# Altium footprint library Xedk.PcbLib: 11 footprints
Each footprint in its own frame and in the unit in brackets; x right, y up, seen from the top. Pads: shape width x height; smd on the part's side, far side on the other; paste and mask are expansions set on the pad; w line width, h text height; cw(c..) or ccw(c..) is an arc to the next point about the centre after c.
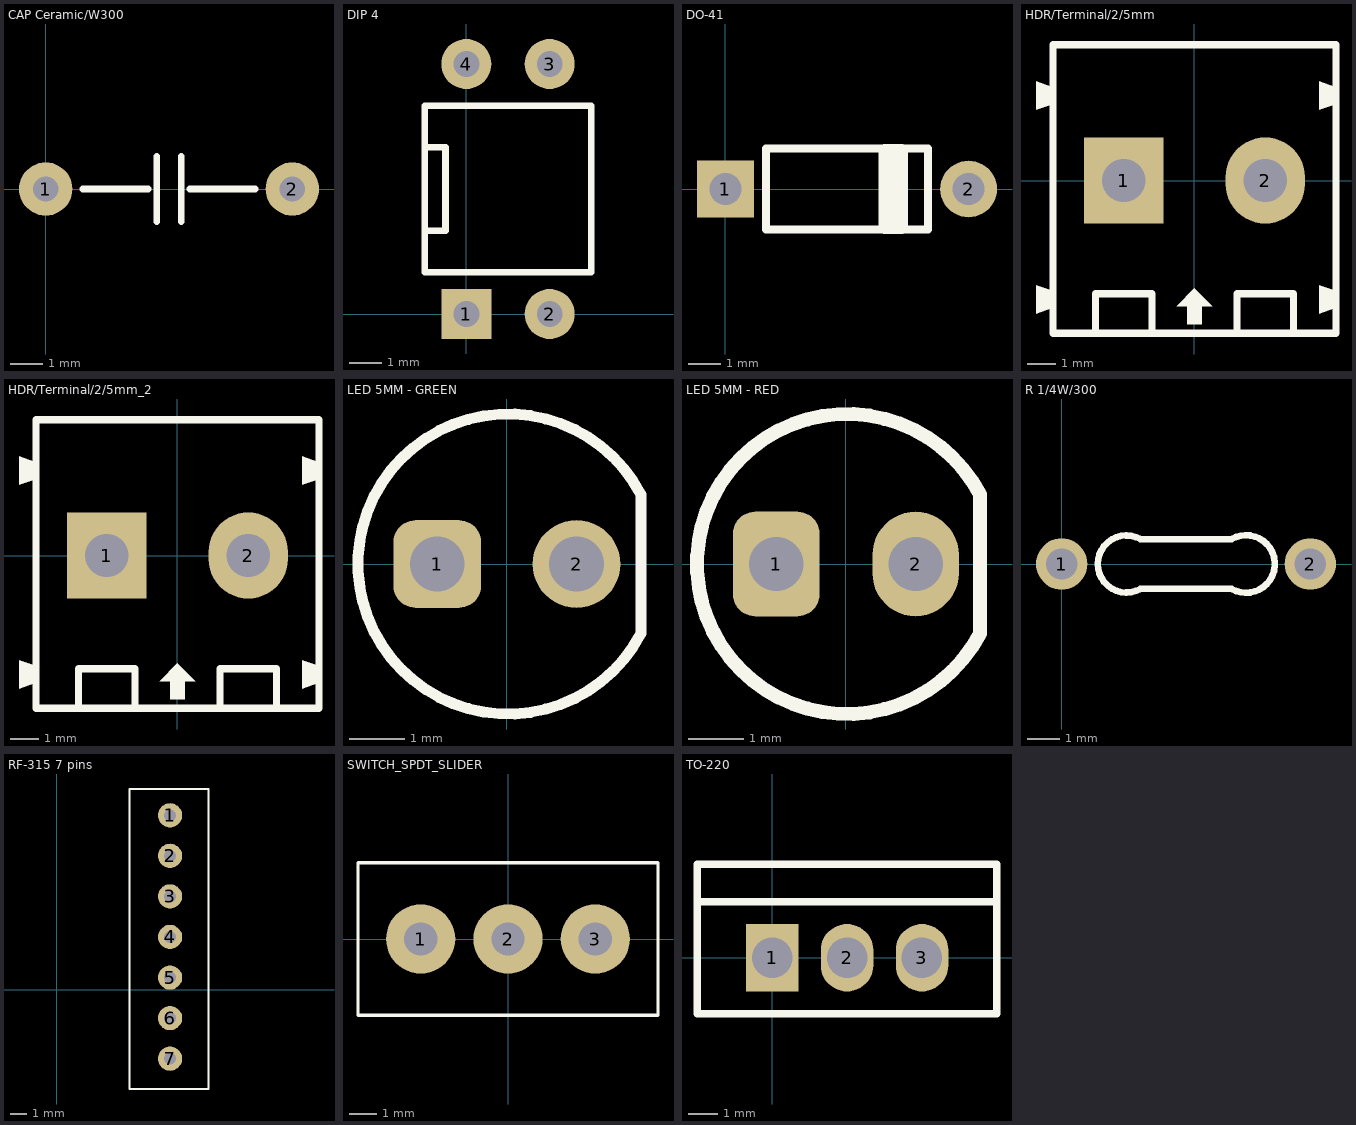
[diagram p0: the footprints below, top view; thin cyan lines are the x and y axes]

## CAP Ceramic/W300 [mil]
pads (2):
  round 65 hole 31: 1(0,0) 2(300,0)
Top Overlay:
  lines w8: 45,0 125,0 ; 135,-40 135,40 ; 165,-40 165,40 ; 175,0 255,0
3D body "User Library-Panasonic ECK-A3D102KBP.step": height 339.84, standoff -180, extent -7.5,-47.15 307.5,47.16

## DIP 4 [mil]
pads (4):
  rect 60x60 / inner round 0 / far side rect 60x80 hole 31: 1(0,0)
  round 60 / inner round 0 / far side oval 60x80 hole 31: 2(100,0) 3(100,300) 4(0,300)
Top Overlay:
  lines w8: -50,100 -25,100 -25,200 -50,200 ; -50,50 -50,250 150,250 150,50 -50,50
3D body "User Library-DIP4-7_62-2_54.STEP": height 276.09, standoff 0.5, extent -41.27,2.29 139.7,312.67

## DO-41 [mil]
pads (2):
  rect 70x70 hole 39.37: 1(0,0)
  round 70 hole 39.37: 2(300,0)
Top Overlay:
  region: 223.41,53.83 225,50 225,-50 223.41,-53.83 219.59,-55.41 194.59,-55.41 190.76,-53.83 189.18,-50 189.18,50 190.76,53.83 194.59,55.41 219.59,55.41
  lines w10: 50,-50 250,-50 250,50 50,50 50,-50
3D body "User Library-DO-41G-30.step": height 99.25, standoff -78.74, extent -15.36,-47.28 315.35,47.28

## HDR/Terminal/2/5mm [mil]
pads (2):
  rect 110x120 hole 60: 1(-98.43,0)
  oval 110x120 hole 60: 2(98.43,0)
Top Overlay:
  region: 0,-150 -25,-175 -10,-175 -10,-200 10,-200 10,-175 25,-175
  region: -220.47,98.43 -220.47,137.8 -196.85,129.92 -196.85,106.3
  region: -220.47,-185.04 -220.47,-145.67 -196.85,-153.54 -196.85,-177.17
  region: 173.23,-185.04 173.23,-145.67 196.85,-153.54 196.85,-177.17
  region: 173.23,98.43 173.23,137.8 196.85,129.92 196.85,106.3
  lines w10: -137.8,-212.6 -137.8,-157.48 -59.06,-157.48 -59.06,-212.6 ; 59.06,-212.6 59.06,-157.48 137.8,-157.48 137.8,-212.6 ; -196.85,-212.6 -196.85,188.98 196.85,188.98 196.85,-212.6 -196.85,-212.6
3D body "terminal_blocks_a-tb500-ti02.stp": height 559.07, standoff -137.8, extent -220.47,-214.57 196.85,190.95

## HDR/Terminal/2/5mm_2 [mil]
pads (2):
  rect 110x120 hole 60: 1(-98.43,0)
  oval 110x120 hole 60: 2(98.43,0)
Top Overlay:
  region: 0,-150 -25,-175 -10,-175 -10,-200 10,-200 10,-175 25,-175
  region: -220.47,98.43 -220.47,137.8 -196.85,129.92 -196.85,106.3
  region: -220.47,-185.04 -220.47,-145.67 -196.85,-153.54 -196.85,-177.17
  region: 173.23,-185.04 173.23,-145.67 196.85,-153.54 196.85,-177.17
  region: 173.23,98.43 173.23,137.8 196.85,129.92 196.85,106.3
  lines w10: -137.8,-212.6 -137.8,-157.48 -59.06,-157.48 -59.06,-212.6 ; 59.06,-212.6 59.06,-157.48 137.8,-157.48 137.8,-212.6 ; -196.85,-212.6 -196.85,188.98 196.85,188.98 196.85,-212.6 -196.85,-212.6
3D body "terminal_blocks_a-tb500-ti02.stp": height 559.07, standoff -137.8, extent -220.47,-214.57 196.85,190.95

## LED 5MM - GREEN [mm]
pads (2):
  rrect50% 1.6x1.6 hole 1: 1(-1.27,0)
  round 1.6 hole 1: 2(1.27,0)
Top Overlay:
  lines w0.2: 2.44,-1.27 cw(c0.019,0) 2.44,1.27 2.44,-1.27
3D body "User Library-LED 5mm Green.STEP": height 8.63, standoff -6.17, extent -2.98,-3.01 2.44,3.01

## LED 5MM - RED [mil]
pads (2):
  rrect50% 62x75 hole 39: 1(-50,0)
  oval 62x75 hole 39: 2(50,0)
Top Overlay:
  lines w10: 96.08,-49.99 cw(c0.76,0.01) 96.08,50.01 96.08,-49.99
3D body "User Library-LED 5mm Red.STEP": height 339.75, standoff -242.93, extent -117.31,-118.49 96.08,118.5

## R 1/4W/300 [mil]
pads (2):
  round 62 hole 38: 1(0,0) 2(300,0)
Top Overlay:
  lines w8: 95,-30 cw(c78.05,0) 95,30 205,30 cw(c222.5,0) 205,-30 95,-30
3D body "User Library-R-Axial-0_25W-7_62.step": height 97.42, standoff -146.85, extent -11.8,-47.37 311.82,47.38

## RF-315 7 pins [mil]
pads (7):
  round 60 hole 30: 1(280,430) 2(280,330) 3(280,230) 4(280,130) 5(280,30) 6(280,-70) 7(280,-170)
Top Overlay:
  lines w5.91: 180,-245 180,495 375,495 375,-245 180,-245
3D body "User Library-zl262-7s_p2-54_l18-28_w2-54_h8-5.STEP": height 335.15, standoff -117.61, extent 230.26,-231.57 330.26,488.12

## SWITCH_SPDT_SLIDER [mil]
pads (3):
  round 100 hole 48: 1(-126,0) 2(0,0) 3(126,0)
Top Overlay:
  lines w5: -216.54,-110.24 216.54,-110.24 216.54,110.24 -216.54,110.24 -216.54,-110.24
3D body "Slide Switch SLS121PC04.STEP": height 394, standoff -170, extent -216.49,-109.99 216.51,110.01

## TO-220 [mil]
pads (3):
  rect 70x90 hole 54: 1(0,0)
  oval 70x90 hole 54: 2(100,0) 3(200,0)
Top Overlay:
  lines w10: -100,75 300,75 ; -100,-75 300,-75 300,125 -100,125 -100,-75
3D body "CircuitWorks-TO-220HS.step": height 730, standoff -150, extent -100,-50 300,130